# Altium footprint library CON2x3_100mil_lock.PcbLib: 1 footprints
Each footprint in its own frame and in the unit in brackets; x right, y up, seen from the top. Pads: shape width x height; smd on the part's side, far side on the other; paste and mask are expansions set on the pad; w line width, h text height; cw(c..) or ccw(c..) is an arc to the next point about the centre after c.
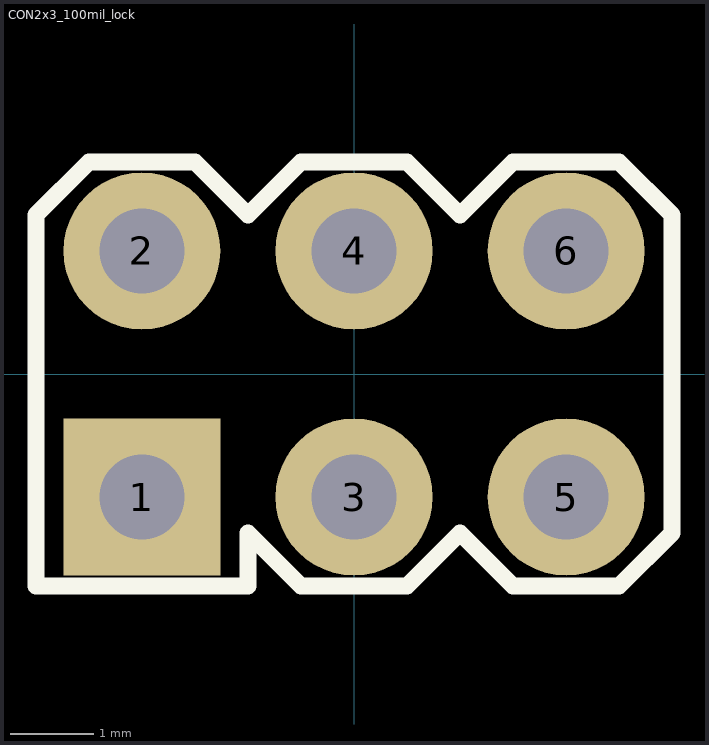
[diagram p0: the footprint, top view; thin cyan lines are the x and y axes]

## CON2x3_100mil_lock [mil]
pads (6):
  rect 74x74 hole 40: 1(-100,-58)
  round 74 hole 40: 2(-100,58) 3(0,-58) 4(0,58) 5(100,-58) 6(100,58)
Top Overlay:
  lines w8: -150,-100 -75,-100 -50,-100 -50,-75 -25,-100 25,-100 50,-75 75,-100 125,-100 150,-75 150,75 125,100 75,100 50,75 25,100 -25,100 -50,75 -75,100 -125,100 -150,75 -150,-100
Mechanical 16:
  rectangle: 90,-60 110,-40
  rectangle: -10,-60 10,-40
  rectangle: -110,-60 -90,-40
  rectangle: -110,40 -90,60
  rectangle: -10,40 10,60
  rectangle: 90,40 110,60